# EAGLE library part LM324M (library NSC-LM324M)
Low Power Quad Operational Amplifiers
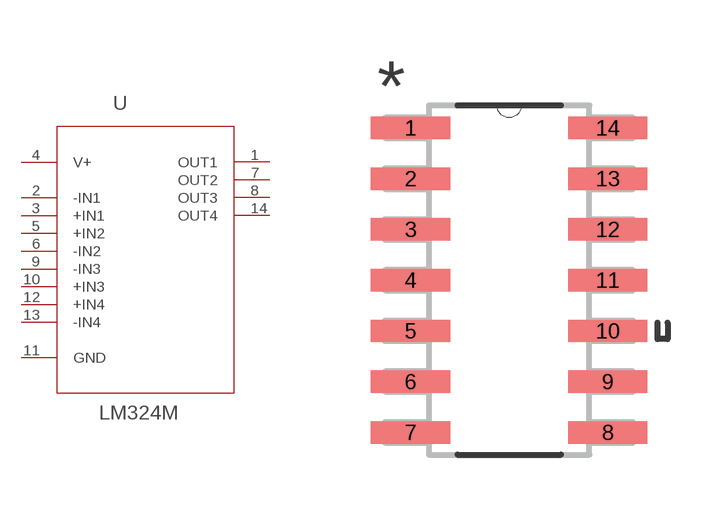
[diagram p0: symbol with the pads of SOIC127P620X175-14N; footprint SOIC127P620X175-14N]

Designator prefix U

## LM324M (MPN: LM324M; OC_FARNELL: 9486925; OC_NEWARK: -; PACKAGE: SOIC-14; SUPPLIER: National Semiconductor)  [SOIC127P620X175-14N]
1  OUT1  out
2  -IN1  in
3  +IN1  in
4  V+  pwr
5  +IN2  in
6  -IN2  in
7  OUT2  out
8  OUT3  out
9  -IN3  in
10  +IN3  in
11  GND  pas
12  +IN4  in
13  -IN4  in
14  OUT4  out

## Footprint SOIC127P620X175-14N (pad centres in mm)
smd 1.981 x 0.559: 1 -2.464,3.81; 2 -2.464,2.54; 3 -2.464,1.27; 4 -2.464,0; 5 -2.464,-1.27; 6 -2.464,-2.54; 7 -2.464,-3.81; 8 2.464,-3.81; 9 2.464,-2.54; 10 2.464,-1.27; 11 2.464,0; 12 2.464,1.27; 13 2.464,2.54; 14 2.464,3.81